# EAGLE library part LSM6DS3 (library Accelerometer)
LSM6DS3 - IC MOD 3D ACC/GYRO INEMO 14VFLGA Datasheet <http://www.st.com/web/en/resource/technical/document/datasheet/DM00133076.pdf>
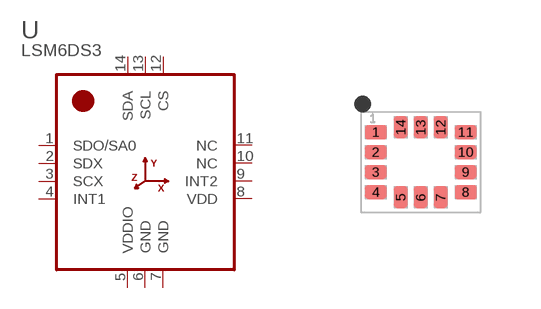
[diagram p4: symbol with the pads of LGA14-2.5X3; footprint LGA14-2.5X3]

Designator prefix U

## LSM6DS3 (MFPN: LSM6DS3)  [LGA14-2.5X3]
1  SDO/SA0
2  SDX
3  SCX
4  INT1
5  VDDIO  pwr
6  GND  pwr
7  GND  pwr
8  VDD  pwr
9  INT2
10  NC  nc
11  NC  nc
12  CS  in
13  SCL
14  SDA

## Footprint LGA14-2.5X3 (pad centres in mm)
LGA14 2.5x3mm LGA Guidelines <http://www.st.com/st-web-ui/static/active/en/resource/technical/document/technical_note/CD00134799.pdf>
smd 0.55 x 0.35: 1 -1.125,0.75; 2 -1.125,0.25; 3 -1.125,-0.25; 4 -1.125,-0.75; 8 1.125,-0.75; 9 1.125,-0.25; 10 1.125,0.25; 11 1.125,0.75
smd 0.35 x 0.55: 5 -0.5,-0.875; 6 0,-0.875; 7 0.5,-0.875; 12 0.5,0.875; 13 0,0.875; 14 -0.5,0.875